# EAGLE library part 750310042 (library Wurth Electronics Midcom Inc V1-0)
Package Style: Non Standard EFD20 Mounting: THT Pins: 8 pins Bobbin: 070-2609 Windings Primary: 30-57V, 250kHz Aux: Secondary: 12V 5A Secondary: -12V 1.6A Best pinouts for production vary per application. Please contact Wurth Electronics Midcom, Inc. for assistance with your custom design. Datasheet: 750310042 <http://www.we-online.com/web/en/index.php/show/media/passive_components_-_custom_magnetics/pdf_doc_files/spec_sheets/7503/750310042.pdf> Website: Wurth Electronics Midcom <http://www.we-online.com/midcom> Contact us Wurth Electronics Midcom, Inc. 121 Airport Dr. Watertown, SD 57201 Phone: (605) 886-4385 Fax: (605) 886-4486 E-Mail: midcom@we-online.com
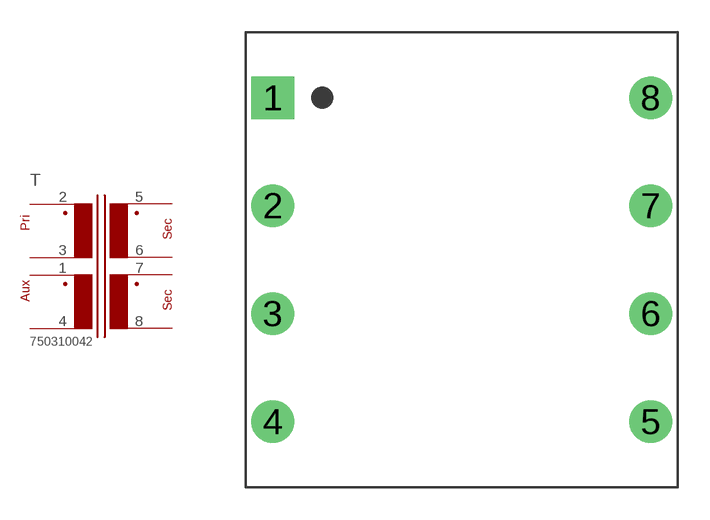
[diagram p50: symbol with the pads of 99NONSTANDARD_EFD20_THT_8PIN; footprint 99NONSTANDARD_EFD20_THT_8PIN]

Designator prefix T

## 750310042  [99NONSTANDARD_EFD20_THT_8PIN]
1  3  pas
2  1  pas
3  2  pas
4  4  pas
5  5  pas
6  6  pas
7  7  pas
8  8  pas

## Footprint 99NONSTANDARD_EFD20_THT_8PIN (pad centres in mm)
Package Style: Non-standard EFD20 Mounting: THT Pins: 8
drill 1.321 square: 1 -8.75,7.506
drill 1.321 round: 2 -8.75,2.502; 3 -8.75,-2.502; 4 -8.75,-7.506; 5 8.75,-7.506; 6 8.75,-2.502; 7 8.75,2.502; 8 8.75,7.506